# Altium footprint library Misc.PcbLib: 56 footprints (part 3 of 4)
Each footprint in its own frame and in the unit in brackets; x right, y up, seen from the top. Pads: shape width x height; smd on the part's side, far side on the other; paste and mask are expansions set on the pad; w line width, h text height; cw(c..) or ccw(c..) is an arc to the next point about the centre after c.
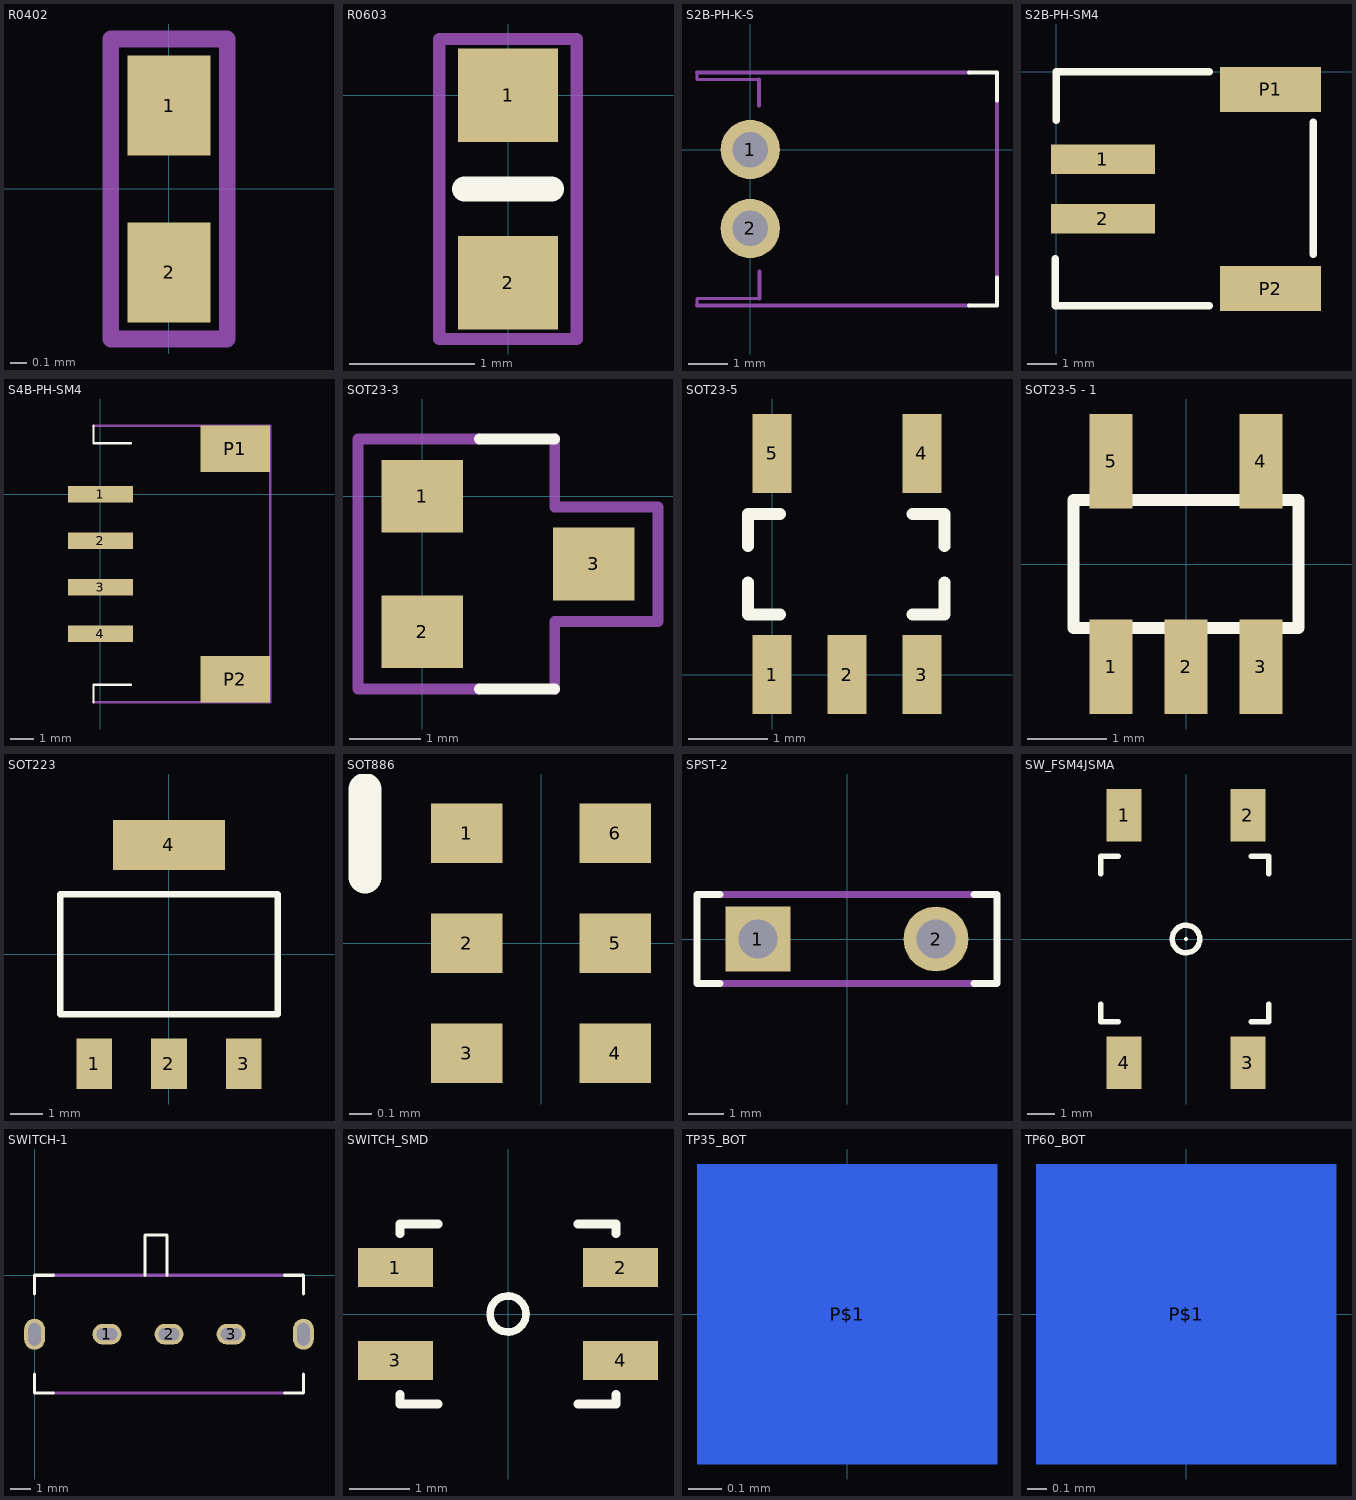
[diagram p2: the footprints below, top view; thin cyan lines are the x and y axes]

## R0402 [mm] "MicroBit"
height 2
pads (2):
  rect 0.5x0.6 smd: 1(0,0.5) 2(0,-0.5)
Mechanical 15:
  lines w0.1: -0.35,-0.9 0.35,-0.9 0.35,0.9 -0.35,0.9 -0.35,-0.9

## R0603 [mm] "Microbit"
height 2
pads (2):
  rect 0.8x0.75 smd: 1(0,0) 2(0,-1.5)
Top Overlay:
  lines w0.2: -0.35,-0.75 0.35,-0.75
Mechanical 15:
  lines w0.1: -0.55,-1.95 -0.55,0.45 0.55,0.45 0.55,-1.95 -0.55,-1.95

## S2B-PH-K-S [mm] "JST"
pads (2):
  round 1.5 hole 0.9: 1(0,0) 2(0,-2)
Top Overlay:
  lines w0.1: 5.539,-3.95 6.25,-3.95 6.25,-3.239 ; 5.539,1.95 6.25,1.95 6.25,1.239
Mechanical 15:
  lines w0.08: -1.35,-3.95 -1.35,-3.77 0.23,-3.77 ; -1.35,1.95 -1.35,1.77 0.22,1.77
  lines w0.1: -1.35,-3.95 5.539,-3.95 ; -1.35,1.95 5.539,1.95 ; 0.22,1.115 0.22,1.77 ; 0.23,-3.77 0.23,-3.087 ; 6.25,-3.239 6.25,1.239

## S2B-PH-SM4 [mm] "JST"
height 2
pads (4):
  rect 3.5x1 smd: 1(1.575,-2.946) 2(1.575,-4.946)
  rect 3.4x1.5 smd: P1(7.225,-0.596) P2(7.225,-7.296)
Top Overlay:
  lines w0.254: -0.025,-6.299 -0.025,-7.874 5.156,-7.874 ; 0,-1.626 0,0 5.156,0 ; 8.661,-6.147 8.661,-1.702
3D body: height 0.1, standoff -5.5, extent 0.018,-7.874 8.618,0.026

## S4B-PH-SM4 [mm]
pads (6):
  rect 2.8x0.7 smd: 1(0,0) 2(0,-2) 3(0,-4) 4(0,-6)
  rect 3x2 smd: P1(5.8,1.95) P2(5.8,-7.95)
Top Overlay:
  lines w0.1: -0.3,-8.95 -0.3,-8.19 1.3,-8.19 ; -0.3,2.95 -0.3,2.19 1.3,2.19
Mechanical 15:
  lines w0.1: -0.3,-8.95 1.3,-8.95 7.3,-8.95 7.3,2.95 1.3,2.95 -0.3,2.95

## SOT23-3 [mil]
pads (3):
  rect 45x40 smd: 1(0,0) 2(0,-74.8) 3(94.49,-37.4)
Top Overlay:
  lines w6: 31.5,-106.3 72.99,-106.3 ; 31.5,31.5 72.99,31.5
Mechanical 15:
  lines w5.98: -35.43,-106.3 31.5,-106.3 ; -35.43,31.5 31.5,31.5
  lines w6: -35.43,-106.3 -35.43,31.5 ; 72.99,-106.3 72.99,-69.02 129.92,-69.02 129.92,-5.98 72.99,-5.98 72.99,31.5

## SOT23-5 [mm]
pads (5):
  rect 0.5x1 smd: 1(0,0) 2(0.95,0) 3(1.9,0) 4(1.9,2.8) 5(0,2.8)
Top Overlay:
  lines w0.15: -0.305,1.168 -0.305,0.762 0.102,0.762 ; -0.305,1.626 -0.305,2.032 0.102,2.032 ; 1.778,0.762 2.184,0.762 2.184,1.168 ; 1.778,2.032 2.184,2.032 2.184,1.626

## SOT23-5 - 1 [mm] "PHOTON"
pads (5):
  rect 0.55x1.2 smd: 1(-0.95,-1.3) 2(0,-1.3) 3(0.95,-1.3) 4(0.95,1.3) 5(-0.95,1.3)
Top Overlay:
  lines w0.152: -1.328,-0.81 -1.422,-0.81 ; -1.328,0.81 -1.422,0.81 ; -0.522,-0.81 -0.427,-0.81 ; -0.522,0.81 0.522,0.81 ; 0.427,-0.81 0.522,-0.81 ; 1.328,-0.81 1.422,-0.81 ; 1.328,0.81 1.422,0.81 ; -1.422,-0.81 1.422,-0.81 ; -1.422,-0.81 -1.422,0.81 ; -1.422,0.81 1.422,0.81 ; 1.422,-0.81 1.422,0.81

## SOT223 [mm] "SOT-223/SC-73   Body 6.7 x 7.3 mm"
height 1.8
pads (4):
  rect 1.1x1.55 smd: 1(-2.3,-3.375) 2(0,-3.375) 3(2.3,-3.375)
  rect 3.45x1.55 smd: 4(0,3.375)
Top Overlay:
  lines w0.2: -3.35,-1.85 -3.35,1.85 3.35,1.85 3.35,-1.85 -3.35,-1.85

## SOT886 [mm]
height 0.5
pads (6):
  rect 0.325x0.27 smd: 1(-0.337,0.5) 2(-0.337,0) 3(-0.337,-0.5) 4(0.337,-0.5) 5(0.337,0) 6(0.337,0.5)
Top Overlay:
  lines w0.15: -0.8,0.3 -0.8,0.7
3D body: height 0.82, standoff 0, extent -0.5,-0.75 0.5,0.75

## SPST-2 [mm] "Switch; 2 Leads"
pads (2):
  rect 1.85x1.85 hole 1.1: 1(-2.54,0)
  round 1.85 hole 1.1: 2(2.54,0)
Top Overlay:
  lines w0.2: -3.62,-1.27 -4.28,-1.27 -4.28,1.27 -3.62,1.27 ; 3.62,-1.27 4.28,-1.27 4.28,1.27 3.62,1.27
Mechanical 15:
  lines w0.2: -3.62,-1.27 3.62,-1.27 ; -3.62,1.27 3.62,1.27

## SW_FSM4JSMA [mm] "TE 6MM SPST SWITCH"
height 5
pads (5):
  rect 1.27x1.905 smd: 1(-2.25,4.5) 2(2.25,4.5) 3(2.25,-4.5) 4(-2.25,-4.5)
  round 0.152 on Top Overlay: 3(0,0)
Top Overlay:
  circle w0.2: c0,0 r0.5
  lines w0.2: -3.1,-2.367 -3.1,-3 -2.467,-3 ; -3.1,2.367 -3.1,3 -2.467,3 ; 2.367,-3 3,-3 3,-2.367 ; 2.367,3 3,3 3,2.367
3D body: height 5.1, standoff 0.02, extent -3,-5 3,5

## SWITCH-1 [mm] "拨动开关"
pads (5):
  oval 1.4x1 hole 0.6 slot 1 at 0 deg: 1(3.5,-2.85) 2(6.5,-2.85) 3(9.5,-2.85)
  oval 1x1.5 hole 0.6 slot 1.1 at 90 deg: ""(0,-2.85) ""(13,-2.85)
Top Overlay:
  lines w0.15: 0,-4.786 0,-5.7 0.914,-5.7 ; 0,-0.914 0,0 0.914,0 ; 5.334,0 5.334,1.956 6.401,1.956 6.401,0 ; 12.086,-5.7 13,-5.7 13,-4.786 ; 12.086,0 13,0 13,-0.914
Mechanical 15:
  lines w0.15: 0.914,-5.7 12.086,-5.7 ; 0.914,0 12.086,0

## SWITCH_SMD [mm] "PHOTON-PARTICLE"
pads (4):
  rect 1.25x0.65 smd: 1(-1.875,0.775) 2(1.875,0.775) 3(-1.875,-0.775) 4(1.875,-0.775)
Top Overlay:
  circle w0.127: c0,0 r0.3
  lines w0.15: -1.8,-1.343 -1.8,-1.5 -1.167,-1.5 ; -1.8,1.343 -1.8,1.5 -1.167,1.5 ; 1.167,-1.5 1.8,-1.5 1.8,-1.343 ; 1.167,1.5 1.8,1.5 1.8,1.343

## TP35_BOT [mil] "PHOTON"
pads (1):
  rect 35x35 smd far side: P$1(0,0)

## TP60_BOT [mil] "PHOTON"
pads (1):
  rect 60x60 smd far side: P$1(0,0)